# EAGLE library part ADC081S021CIMF/NOPB (library Birdhouse)
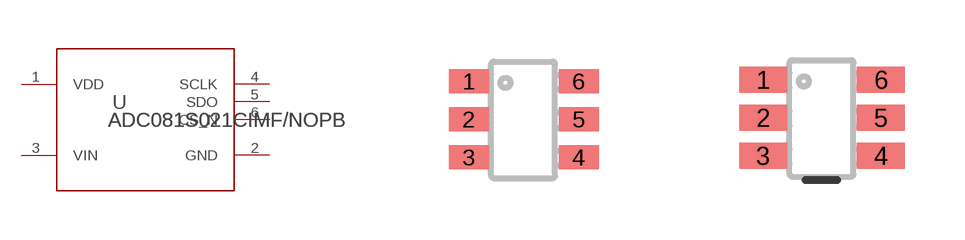
[diagram p6: symbol with the pads of DBV0006A_N; footprints DBV0006A_N, DBV0006A_M]

Designator prefix U

## ADC081S021CIMF/NOPB (COPYRIGHT: Copyright (C) 2023 Ultra Librarian. All rights reserved.; DIGI-KEY_PART_NUMBER_1: 2156-ADC081S021CIMF/NOPB-ND; DIGI-KEY_PART_NUMBER_2: 2156-ADC081S021CIMF/NOPB-TI-ND; DIGI-KEY_PART_NUMBER_3: ADC081S021CIMF/NOPBCT-ND; DIGI-KEY_PART_NUMBER_4: ADC081S021CIMF/NOPBDKR-ND; DIGI-KEY_PART_NUMBER_5: ADC081S021CIMF/NOPBTR-ND; MANUFACTURER_PART_NUMBER: ADC081S021CIMF/NOPB; MFR_NAME: Texas Instruments)  [DBV0006A_N]
1  VDD  pwr
2  GND  pwr
3  VIN  in
4  SCLK  in
5  SDO  out
6  CS_N  in

## ADC081S021CIMF/NOPBDBV0006A_M (COPYRIGHT: Copyright (C) 2023 Ultra Librarian. All rights reserved.; DIGI-KEY_PART_NUMBER_1: 2156-ADC081S021CIMF/NOPB-ND; DIGI-KEY_PART_NUMBER_2: 2156-ADC081S021CIMF/NOPB-TI-ND; DIGI-KEY_PART_NUMBER_3: ADC081S021CIMF/NOPBCT-ND; DIGI-KEY_PART_NUMBER_4: ADC081S021CIMF/NOPBDKR-ND; DIGI-KEY_PART_NUMBER_5: ADC081S021CIMF/NOPBTR-ND; MANUFACTURER_PART_NUMBER: ADC081S021CIMF/NOPB; MFR_NAME: Texas Instruments)  [DBV0006A_M]
Pads as for DBV0006A_N

## ADC081S021CIMF/NOPBDBV0006A_L (COPYRIGHT: Copyright (C) 2023 Ultra Librarian. All rights reserved.; DIGI-KEY_PART_NUMBER_1: 2156-ADC081S021CIMF/NOPB-ND; DIGI-KEY_PART_NUMBER_2: 2156-ADC081S021CIMF/NOPB-TI-ND; DIGI-KEY_PART_NUMBER_3: ADC081S021CIMF/NOPBCT-ND; DIGI-KEY_PART_NUMBER_4: ADC081S021CIMF/NOPBDKR-ND; DIGI-KEY_PART_NUMBER_5: ADC081S021CIMF/NOPBTR-ND; MANUFACTURER_PART_NUMBER: ADC081S021CIMF/NOPB; MFR_NAME: Texas Instruments)  [DBV0006A_L]
Pads as for DBV0006A_N

## Footprint DBV0006A_N (pad centres in mm)
smd 1 x 0.6: 1 -1.375,0.95; 2 -1.375,0; 3 -1.375,-0.95; 4 1.375,-0.95; 5 1.375,0; 6 1.375,0.95

## Footprint DBV0006A_M (pad centres in mm)
smd 1.2 x 0.65: 1 -1.475,0.95; 2 -1.475,0; 3 -1.475,-0.95; 4 1.475,-0.95; 5 1.475,0; 6 1.475,0.95

## Footprint DBV0006A_L (pad centres in mm)
smd 0.8 x 0.55: 1 -1.275,0.95; 2 -1.275,0; 3 -1.275,-0.95; 4 1.275,-0.95; 5 1.275,0; 6 1.275,0.95